# EAGLE library part XR-1092P (library exar)
EQUALIZER DISPLAY/FILTER/MULTIPLEXER
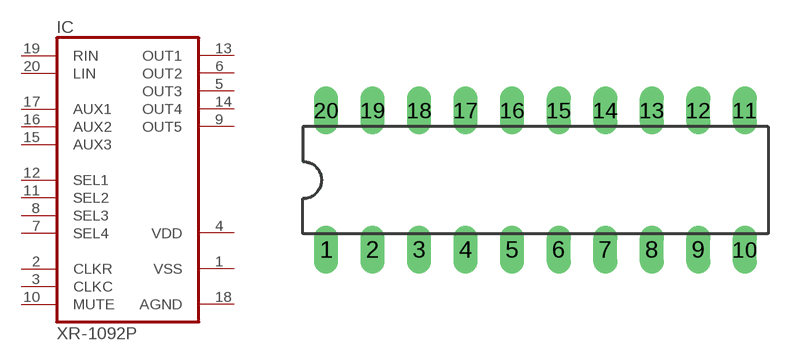
[diagram p101: symbol with the pads of DIL20; footprint DIL20]

Designator prefix IC

## XR-1092P  [DIL20]
1  VSS  pwr
2  CLKR  in
3  CLKC  in
4  VDD  pwr
5  OUT3  out
6  OUT2  out
7  SEL4  in
8  SEL3  in
9  OUT5  out
10  MUTE  in
11  SEL2  in
12  SEL1  in
13  OUT1  out
14  OUT4  out
15  AUX3  in
16  AUX2  in
17  AUX1  in
18  AGND  pwr
19  RIN  in
20  LIN  in

## Footprint DIL20 (pad centres in mm)
Dual In Line Package
drill 0.813 long: 1 -11.43,-3.81; 2 -8.89,-3.81; 3 -6.35,-3.81; 4 -3.81,-3.81; 5 -1.27,-3.81; 6 1.27,-3.81; 7 3.81,-3.81; 8 6.35,-3.81; 9 8.89,-3.81; 10 11.43,-3.81; 11 11.43,3.81; 12 8.89,3.81; 13 6.35,3.81; 14 3.81,3.81; 15 1.27,3.81; 16 -1.27,3.81; 17 -3.81,3.81; 18 -6.35,3.81; 19 -8.89,3.81; 20 -11.43,3.81